# Altium schematic symbol library NCV8730ASN500T1G.SchLib: 1 symbol
Pins are listed as number, name and electrical type; pins without a type are passive.

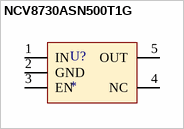
[diagram p0: symbol NCV8730ASN500T1G]

## NCV8730ASN500T1G
designator U?
footprint TSSOP5
pins: 1 IN, 2 GND, 3 EN, 4 NC, 5 OUT